# Altium schematic symbol library hmi.SchLib: 60 symbols
Pins are listed as number, name and electrical type; pins without a type are passive.

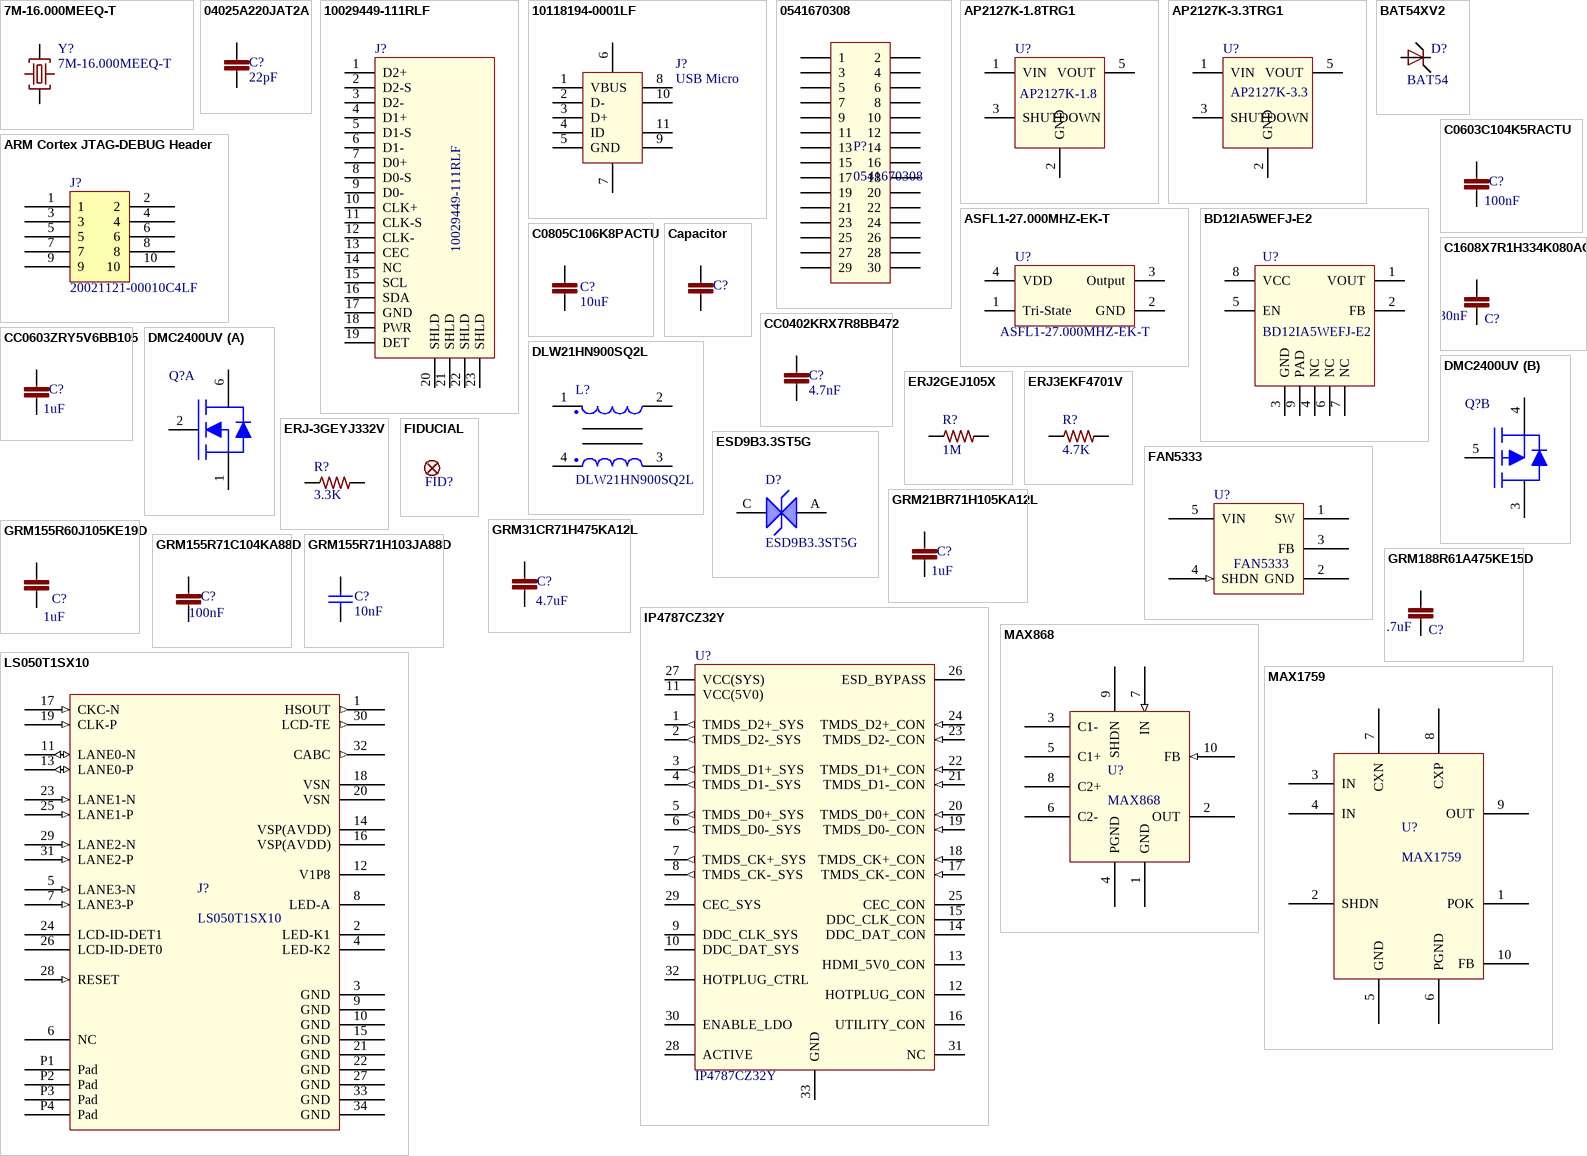
[diagram p0: symbols 7M-16.000MEEQ-T to MAX1759]

## 7M-16.000MEEQ-T
designator Y?
Crystal 16mHz 10ppm 10pF; LastRevisionNote: ImportComponents; LastRevisionDate: 23-Apr-2014; ManufacturerPartNumber: 7M-16.000MEEQ-T; Published: 23-Apr-2014; Publisher: UltiMachine
footprint CRYS320250
pins: 1 C1, 2 GND, 3 C2, 4 GND

## 04025A220JAT2A
designator C?, comment 22pF
CAP CER 0402 22pF 50V 5% C0G; ManufacturerPartNumber: 04025A220JAT2A; LastRevisionNote: ImportComponents; Published: 23-Apr-2014; Publisher: UltiMachine; LastRevisionDate: 23-Apr-2014; VALUE: 22pF
signal-integrity model Model Name (Model Description)
simulation model Model Name (Model Description)
footprint C0402
pins: 1, 2

## 10029449-111RLF
designator J?
CONN HDMI RECPT 19POS SMT R/A
footprint 10029449-111RLF
pins: 1 D2+ (power), 2 D2-S (power), 3 D2- (power), 4 D1+ (power), 5 D1-S (power), 6 D1- (power), 7 D0+ (power), 8 D0-S (power), 9 D0- (power), 10 CLK+ (power), 11 CLK-S (power), 12 CLK- (power), 13 CEC (power), 14 NC (power), 15 SCL (power), 16 SDA (power), 17 GND (power), 18 PWR (power), 19 DET (power), 20 SHLD (power), 21 SHLD (power), 22 SHLD (power), 23 SHLD (power)

## 10118194-0001LF
designator J?, comment USB Micro
Conn Recept USB - micro B 2.0 5 Pos SMT, Rt Angle, Horizontal
footprint 10118194-0001LF
pins: 1 VBUS (power), 2 D- (power), 3 D+ (power), 4 ID (power), 5 GND (power), 6 (power), 7 (power), 8 (power), 9 (power), 10 (power), 11 (power)

## 0541670308
designator P?
footprint 0537480308-PinSwitched
pins: 1 (power), 2 (power), 3 (power), 4 (power), 5 (power), 6 (power), 7 (power), 8 (power), 9 (power), 10 (power), 11 (power), 12 (power), 13 (power), 14 (power), 15 (power), 16 (power), 17 (power), 18 (power), 19 (power), 20 (power), 21 (power), 22 (power), 23 (power), 24 (power), 25 (power), 26 (power), 27 (power), 28 (power), 29 (power), 30 (power)

## AP2127K-1.8TRG1
designator U?, comment AP2127K-1.8
LDO 1.8V 0.3A SOT25
footprint SOT23-5P285X140-5L (SOT26, 6-Leads, Body 3.00x2.85mm, Pitch 0.95mm, IPC High Density)
pins: 1 VIN (power), 2 GND (power), 3 SHUTDOWN (power), 5 VOUT (power)

## AP2127K-3.3TRG1
designator U?, comment AP2127K-3.3
LDO 3.3V 0.3A SOT25
footprint SOT23-5P285X140-5L (SOT26, 6-Leads, Body 3.00x2.85mm, Pitch 0.95mm, IPC High Density)
pins: 1 VIN (power), 2 GND (power), 3 SHUTDOWN (power), 5 VOUT (power)

## ARM Cortex JTAG-DEBUG Header
designator J?, comment 20021121-00010C4LF
footprint FTSH-105-XX-X-DV (1.27mm pitch, 10 pin, terminal strip; vertical, SMT)
pins: 1, 2, 3, 4, 5, 6, 7, 8, 9, 10

## ASFL1-27.000MHZ-EK-T
designator U?
OSC XO 27.000MHZ HCMOS TTL SMD
footprint OSC-5x3.2x1.3
pins: 1 Tri-State (power), 2 GND (power), 3 Output (power), 4 VDD (power)

## BAT54XV2
designator D?, comment BAT54
Diode Schottky 30V 200mA
footprint SOD523
signal-integrity model Guessed Model (Diode Model Details Guessed by Setup Helper)
pins: A, C

## BD12IA5WEFJ-E2
designator U?
LDO Regulator 500mA 1.2V
footprint TSOP-HTSOP-J8-127P600X100_HS-9M (TSOP, 8-Leads, Body 5.02x3.90mm, Pitch 1.27mm, Thermal Pad 3.20x2.40mm, IPC Low Density)
pins: 1 VOUT (power), 2 FB (power), 3 GND (power), 4 NC (power), 5 EN (power), 6 NC (power), 7 NC (power), 8 VCC (power), 9 PAD (power)

## C0603C104K5RACTU
designator C?, comment 100nF
CAP CER 0603 100nF 50V 10% X7R; ManufacturerPartNumber: C0603C104K5RACTU; LastRevisionNote: ImportComponents; Published: 23-Apr-2014; Publisher: UltiMachine; LastRevisionDate: 23-Apr-2014; VALUE: 100nF
footprint C0603
signal-integrity model Model Name (Model Description)
simulation model Model Name (Model Description)
pins: 1, 2

## C0805C106K8PACTU
designator C?, comment 10uF
CAP CER 0805 10uF 10V 10% X5R; ManufacturerPartNumber: C0805C106K8PACTU; LastRevisionNote: ImportComponents; Published: 23-Apr-2014; Publisher: UltiMachine; LastRevisionDate: 23-Apr-2014; VALUE: 10uF
footprint C0805
signal-integrity model Model Name (Model Description)
simulation model Model Name (Model Description)
pins: 1, 2

## C1608X7R1H334K080AC
designator C?, comment 330nF
CAP CER 0603 330nF 50V 10% X7R; ManufacturerPartNumber: C1608X7R1H334K080AC; LastRevisionNote: ImportComponents; Published: 23-Apr-2014; Publisher: UltiMachine; LastRevisionDate: 23-Apr-2014; VALUE: 330nF
footprint C0603
signal-integrity model Model Name (Model Description)
simulation model Model Name (Model Description)
pins: 1, 2

## Capacitor
designator C?
Capacitor Non Polarized; LastRevisionNote: ImportComponents; Published: 23-Apr-2014; Publisher: UltiMachine; LastRevisionDate: 23-Apr-2014
footprint C0402
footprint C0603
footprint C0805
footprint C1210K
signal-integrity model Model Name (Model Description)
simulation model Model Name (Model Description)
footprint C2220K
footprint C1206
pins: 1, 2

## CC0402KRX7R8BB472
designator C?, comment 4.7nF
CAP CER 0402 4.7nF 25V 10% X7R; ManufacturerPartNumber: CC0402KRX7R8BB472; LastRevisionNote: ImportComponents; Published: 23-Apr-2014; Publisher: UltiMachine; VALUE: 4.7nF; LastRevisionDate: 23-Apr-2014
footprint C0402
signal-integrity model Model Name (Model Description)
simulation model Model Name (Model Description)
pins: 1, 2

## CC0603ZRY5V6BB105
designator C?, comment 1uF
CAP CER 0603 1uF 10V Y5V; ManufacturerPartNumber: CC0603ZRY5V6BB105; LastRevisionNote: ImportComponents; Published: 23-Apr-2014; Publisher: UltiMachine; LastRevisionDate: 23-Apr-2014; VALUE: 1uF
footprint C0603
signal-integrity model Model Name (Model Description)
simulation model Model Name (Model Description)
pins: 1, 2

## DLW21HN900SQ2L
designator L?
Common Mode Chokes Dual 90Ohm 100MHz 330mA 350mOhm DCR SMD
footprint DLW21HN900SQ2L
pins: 1 (power), 2 (power), 3 (power), 4 (power)

## DMC2400UV
designator Q?  (value not drawn)
Mosfet Complementary Pair N +P
footprint SOT563-FL50P162X170-6N (SOTFL, 6-Leads, Body 1.60x1.63mm, Pitch 0.50mm, IPC Medium Density)
part A pins: 1 S1 (power), 2 G1 (power), 6 D1 (power)
part B pins: 3 D2 (power), 4 S2 (power), 5 G2 (power)

## ERJ2GEJ105X
designator R?, comment 1M
RES 0402 1M 100mW 5%; ManufacturerPartNumber: ERJ2GEJ105X; LastRevisionNote: ImportComponents; Published: 23-Apr-2014; Publisher: UltiMachine; LastRevisionDate: 23-Apr-2014; VALUE: 1M
footprint R0402
signal-integrity model Model Name (Model Description)
simulation model Model Name (Model Description)
pins: 1, 2

## ERJ3EKF4701V
designator R?, comment 4.7K
RES 0603 4.7K 100mW 1%; ManufacturerPartNumber: ERJ3EKF4701V; LastRevisionNote: ImportComponents; Published: 23-Apr-2014; Publisher: UltiMachine; LastRevisionDate: 23-Apr-2014; VALUE: 4.7K
footprint R0603
signal-integrity model Model Name (Model Description)
simulation model Model Name (Model Description)
pins: 1, 2

## ERJ-3GEYJ332V
designator R?, comment 3.3K
RES 0603 3.3K 100mW 1%; ManufacturerPartNumber: ERJ-3EKF1002V; LastRevisionNote: ImportComponents; Published: 23-Apr-2014; Publisher: UltiMachine; LastRevisionDate: 23-Apr-2014; VALUE: 3.3K
footprint R0603
signal-integrity model Model Name (Model Description)
simulation model Model Name (Model Description)
pins: 1, 2

## ESD9B3.3ST5G
designator D?
11.5 V 15 pF SMT Transient Voltage Suppressor - SOD-923
footprint SOD923-100X40-2N (SODFL, 2-Leads, Body 0.60x1.00mm, IPC Medium Density)
pins: A (power), C (power)

## FAN5333
designator U?
LED Driver w/ integrated switch
footprint SOT95P270X145-5L (SOT23, 5-Leads, Body 2.90x2.70mm, Pitch 0.95mm, IPC High Density)
pins: 1 SW (power), 2 GND (power), 3 FB, 4 SHDN (in), 5 VIN (power)

## FIDUCIAL
designator FID?  (value not drawn)
LastRevisionNote: ImportComponents; Published: 23-Apr-2014; Publisher: UltiMachine; LastRevisionDate: 23-Apr-2014
footprint FIDUCIAL-1X2
footprint FIDUCIAL-2x3-Panel

## GRM21BR71H105KA12L
designator C?, comment 1uF
CAP CER 0805 1uF 50V 10% X7R; ManufacturerPartNumber: GRM21BR71H105KA12L; LastRevisionNote: ImportComponents; Published: 23-Apr-2014; Publisher: UltiMachine; LastRevisionDate: 23-Apr-2014; VALUE: 1uF
footprint C0805
signal-integrity model Model Name (Model Description)
simulation model Model Name (Model Description)
pins: 1, 2

## GRM31CR71H475KA12L
designator C?, comment 4.7uF
CAP CER 1206 4.7uF 50V 10% X7R; ManufacturerPartNumber: GRM31CR71H475KA12L; LastRevisionNote: ImportComponents; Published: 23-Apr-2014; Publisher: UltiMachine; LastRevisionDate: 23-Apr-2014; VALUE: 4.7uF
signal-integrity model Model Name (Model Description)
simulation model Model Name (Model Description)
footprint C1206
pins: 1, 2

## GRM155R60J105KE19D
designator C?, comment 1uF
CAP CER 0402 1uF 6.3V 10% X5R; ManufacturerPartNumber: GRM155R60J105KE19D; LastRevisionNote: ImportComponents; Published: 23-Apr-2014; Publisher: UltiMachine; LastRevisionDate: 23-Apr-2014; VALUE: 1uF
footprint C0402
signal-integrity model Model Name (Model Description)
simulation model Model Name (Model Description)
pins: 1, 2

## GRM155R71C104KA88D
designator C?, comment 100nF
CAP CER 0402 100nF 16V 10% X7R; ManufacturerPartNumber: GRM155R71C104KA88D; LastRevisionNote: ImportComponents; Published: 23-Apr-2014; Publisher: UltiMachine; LastRevisionDate: 23-Apr-2014; VALUE: 100nF
footprint C0402
signal-integrity model Model Name (Model Description)
simulation model Model Name (Model Description)
pins: 1, 2

## GRM155R71H103JA88D
designator C?, comment 10nF
CAP CER 10nF 50V X7R 0402; MFR Part #: GRM155R71H103JA88D; MFR: Murata; Part Description: CAP CER 10000PF 50V X7R 0402; Tolerance: 10%; Voltage: 6.3VDC; Value: 0.01uF 50V; Published: 10 - Dec - 2014; LatestRevisionDate: 10 - Dec - 2014; LatestRevisionNote: Ultimachine Footprint Added; Publisher: Ultimachine; Component Type: Chip Capacitor; Mounting Type: SMT 0402; Datasheet: http://search.murata.co.jp/Ceramy/image/img/A01X/G101/ENG/GRM155R71H103JA88-01.pdf; Height: 0.5 ±0.05mm; Digikey #: 490-7763-1-ND; PackageReference: 0402
simulation model CAP (Semiconductor Capacitor)
signal-integrity model Cap Semi
footprint C0402
pins: 1, 2

## GRM188R61A475KE15D
designator C?, comment 4.7uF
CAP CER 4.7UF 10V X5R 0603; ManufacturerPartNumber: GRM188R61A475KE15D; LastRevisionNote: ImportComponents; Published: 23-Apr-2014; Publisher: UltiMachine; LastRevisionDate: 23-Apr-2014; VALUE: 4.7uF
footprint C0603
signal-integrity model Model Name (Model Description)
simulation model Model Name (Model Description)
pins: 1, 2

## IP4787CZ32Y
designator U?
IC DVI/HDMI ESD PROTECT 32HVQFN
footprint QFN32-HVQFN32 (32 terminals; body 5 x 5 x 0.85 mm)
pins: 1 TMDS_D2+_SYS (out), 2 TMDS_D2-_SYS (out), 3 TMDS_D1+_SYS (out), 4 TMDS_D1-_SYS (out), 5 TMDS_D0+_SYS (out), 6 TMDS_D0-_SYS (out), 7 TMDS_CK+_SYS (out), 8 TMDS_CK-_SYS (out), 9 DDC_CLK_SYS (power), 10 DDC_DAT_SYS (power), 11 VCC(5V0) (power), 12 HOTPLUG_CON (power), 13 HDMI_5V0_CON (power), 14 DDC_DAT_CON (power), 15 DDC_CLK_CON (power), 16 UTILITY_CON (power), 17 TMDS_CK-_CON (in), 18 TMDS_CK+_CON (in), 19 TMDS_D0-_CON (in), 20 TMDS_D0+_CON (in), 21 TMDS_D1-_CON (in), 22 TMDS_D1+_CON (in), 23 TMDS_D2-_CON (in), 24 TMDS_D2+_CON (in), 25 CEC_CON (power), 26 ESD_BYPASS (power), 27 VCC(SYS) (power), 28 ACTIVE (power), 29 CEC_SYS (power), 30 ENABLE_LDO (power), 31 NC (power), 32 HOTPLUG_CTRL (power), 33 GND (power)

## LS050T1SX10
designator J?
5"HD LCD Module connector
footprint 504208-3410
pins: 1 HSOUT (out), 2 LED-K1 (power), 3 GND (power), 4 LED-K2 (power), 5 LANE3-N (in), 6 NC, 7 LANE3-P (in), 8 LED-A (power), 9 GND (power), 10 GND (power), 11 LANE0-N (io), 12 V1P8 (power), 13 LANE0-P (io), 14 VSP(AVDD) (power), 15 GND (power), 16 VSP(AVDD) (power), 17 CKC-N (in), 18 VSN (power), 19 CLK-P (in), 20 VSN (power), 21 GND (power), 22 GND (power), 23 LANE1-N (in), 24 LCD-ID-DET1, 25 LANE1-P (in), 26 LCD-ID-DET0, 27 GND (power), 28 RESET (in), 29 LANE2-N (in), 30 LCD-TE (out), 31 LANE2-P (in), 32 CABC (out), 33 GND (power), 34 GND (power), P1 Pad, P2 Pad, P3 Pad, P4 Pad

## MAX868
designator U?
Regulated -2x Inverting Charge Pump
footprint TSSOP50P490X109-10L (TSSOP, 10-Leads, Body 3.00x3.00mm, Pitch 0.50mm, IPC High Density)
pins: 1 GND (power), 2 OUT, 3 C1-, 4 PGND (power), 5 C1+ (power), 6 C2-, 7 IN (in), 8 C2+, 9 SHDN, 10 FB (in)

## MAX1759
designator U?
Buck/Boost Regulating Charge Pump
footprint TSSOP50P490X109-10L (TSSOP, 10-Leads, Body 3.00x3.00mm, Pitch 0.50mm, IPC High Density)
pins: 1 POK, 2 SHDN, 3 IN (power), 4 IN (power), 5 GND (power), 6 PGND (power), 7 CXN, 8 CXP, 9 OUT (power), 10 FB (power)

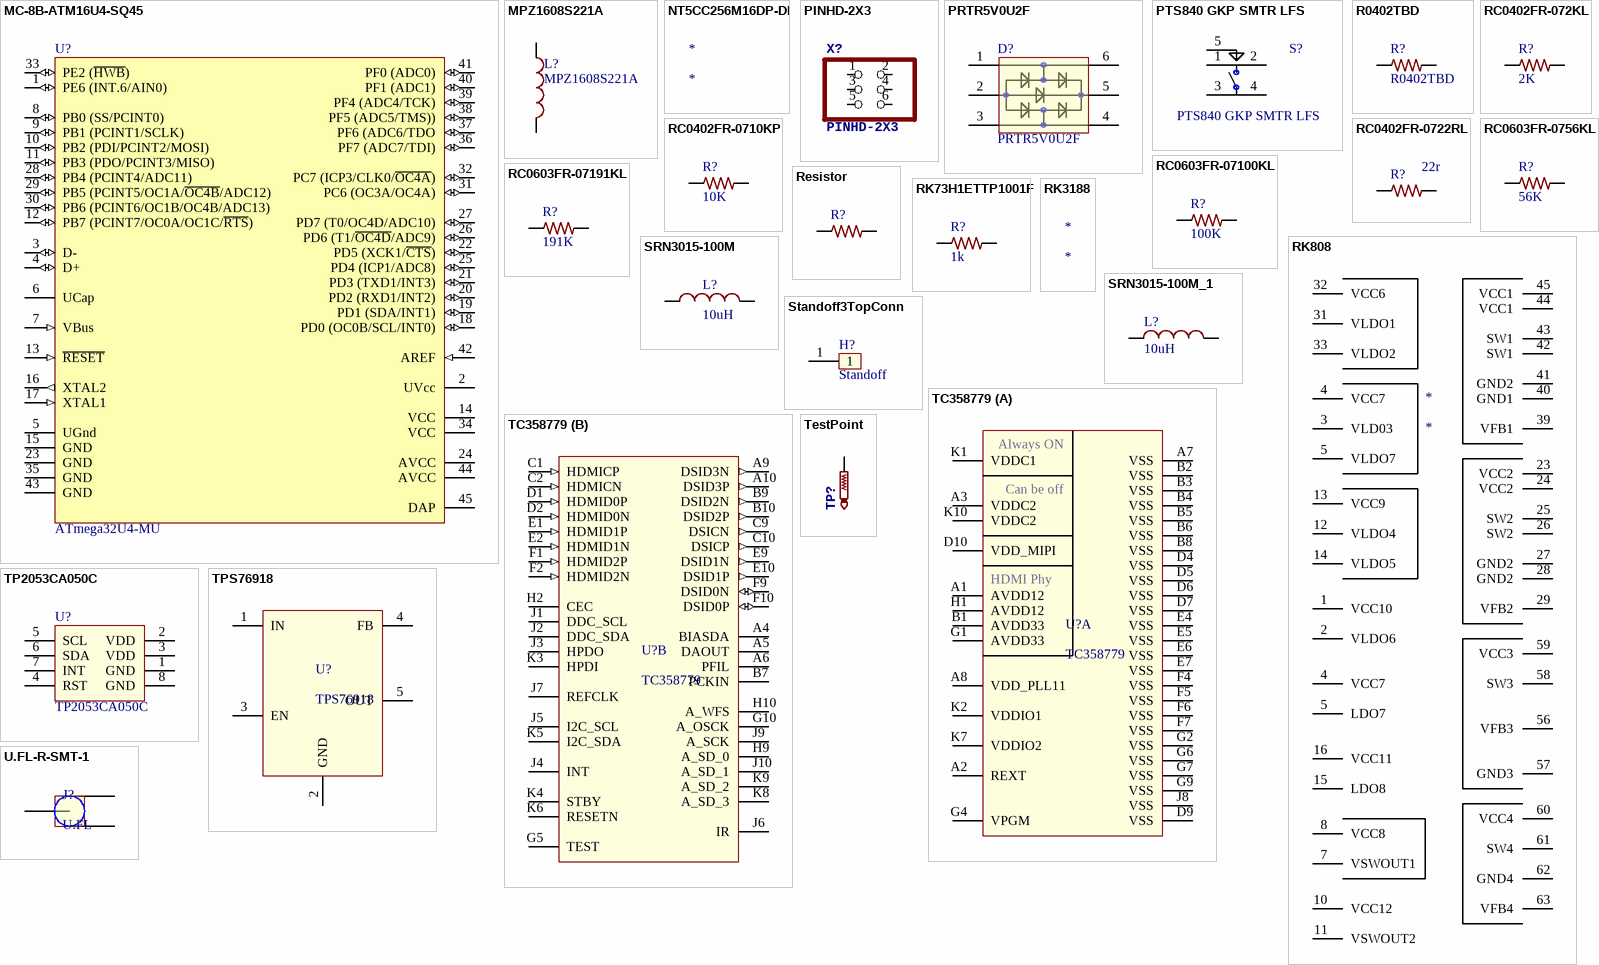
[diagram p1: symbols MC-8B-ATM16U4-SQ45 to U.FL-R-SMT-1]

## MC-8B-ATM16U4-SQ45
designator U?, comment ATmega32U4-MU
footprint 44PW_L (QFN, 44-Leads, Body 7x7mm, Pitch 0.5mm, Thermal Pad 5.3x5.3mm, IPC High Density)
pins: 1 PE6 (INT.6/AIN0) (io), 2 UVcc (power), 3 D- (io), 4 D+ (io), 5 UGnd (power), 6 UCap, 7 VBus (in), 8 PB0 (SS/PCINT0) (io), 9 PB1 (PCINT1/SCLK) (io), 10 PB2 (PDI/PCINT2/MOSI) (io), 11 PB3 (PDO/PCINT3/MISO) (io), 12 PB7 (PCINT7/OC0A/OC1C/~{RTS}) (io), 13 ~{RESET} (in), 14 VCC (power), 15 GND (power), 16 XTAL2 (out), 17 XTAL1 (in), 18 PD0 (OC0B/SCL/INT0) (io), 19 PD1 (SDA/INT1) (io), 20 PD2 (RXD1/INT2) (io), 21 PD3 (TXD1/INT3) (io), 22 PD5 (XCK1/~{CTS}) (io), 23 GND (power), 24 AVCC (power), 25 PD4 (ICP1/ADC8) (io), 26 PD6 (T1/~{OC4D}/ADC9) (io), 27 PD7 (T0/OC4D/ADC10) (io), 28 PB4 (PCINT4/ADC11) (io), 29 PB5 (PCINT5/OC1A/~{OC4B}/ADC12) (io), 30 PB6 (PCINT6/OC1B/OC4B/ADC13) (io), 31 PC6 (OC3A/OC4A) (io), 32 PC7 (ICP3/CLK0/~{OC4A}) (io), 33 PE2 (~{HWB}) (io), 34 VCC (power), 35 GND (power), 36 PF7 (ADC7/TDI) (io), 37 PF6 (ADC6/TDO (io), 38 PF5 (ADC5/TMS)) (io), 39 PF4 (ADC4/TCK) (io), 40 PF1 (ADC1) (io), 41 PF0 (ADC0) (io), 42 AREF (in), 43 GND (power), 44 AVCC (power), 45 DAP (power)

## MPZ1608S221A
designator L?
Ferrite; LastRevisionNote: ImportComponents; Published: 23-Apr-2014; Publisher: UltiMachine; LastRevisionDate: 23-Apr-2014; Value: MPZ1608S221A
footprint C0603
pins: 1, 2

## NT5CC256M16DP-DI
designator *
footprint DDR3x16BGA96C80P9X16_800X1300X100 (BGA, 96-Leads, Body 8.00x13.00mmx1.00mm, Pitch 0.80mm)

## PINHD-2X3
designator X?
PIN HEADER; LastRevisionNote: ImportComponents; LastRevisionDate: 23-Apr-2014; Published: 23-Apr-2014; Publisher: UltiMachine
footprint 2X03
pins: 1, 2, 3, 4, 5, 6

## PRTR5V0U2F
designator D?
Rail-to-rail ESD protection devices
footprint SOT886
pins: 1 (power), 2 (power), 3 (power), 4 (power), 5 (power), 6 (power)

## PTS840 GKP SMTR LFS
designator S?
SWITCH TACTILE SPST-NO 0.05A 12V
footprint PTS840 GKP SMTR LFS (SWITCH TACTILE SPST-NO 0.05A 12V)
pins: 1 (power), 2 (power), 3 (power), 4 (power), 5 (power)

## R0402TBD
designator R?
Resistor; LastRevisionNote: ImportComponents; Published: 23-Apr-2014; Publisher: UltiMachine; LastRevisionDate: 23-Apr-2014; VALUE: R0402TBD
footprint R0402
signal-integrity model Model Name (Model Description)
simulation model Model Name (Model Description)
pins: 1, 2

## RC0402FR-072KL
designator R?, comment 2K
RES SMD 2K OHM 1% 1/16W 0402; ManufacturerPartNumber: RC0402FR-0710KP; LastRevisionNote: ImportComponents; Published: 23-Apr-2014; Publisher: UltiMachine; LastRevisionDate: 23-Apr-2014; VALUE: 2K
footprint R0402
signal-integrity model Model Name (Model Description)
simulation model Model Name (Model Description)
pins: 1, 2

## RC0402FR-0710KP
designator R?, comment 10K
RES SMD 10K OHM 1% 1/16W 0402; ManufacturerPartNumber: RC0402FR-0710KP; LastRevisionNote: ImportComponents; Published: 23-Apr-2014; Publisher: UltiMachine; LastRevisionDate: 23-Apr-2014; VALUE: 10K
footprint R0402
signal-integrity model Model Name (Model Description)
simulation model Model Name (Model Description)
pins: 1, 2

## RC0402FR-0722RL
designator R?, comment 22r
RES 0402 22r 63mW 1%; LastRevisionNote: ImportComponents; Published: 23-Apr-2014; Publisher: UltiMachine; LastRevisionDate: 23-Apr-2014; VALUE: 22r
footprint R0402
signal-integrity model Model Name (Model Description)
simulation model Model Name (Model Description)
pins: 1, 2

## RC0603FR-0756KL
designator R?, comment 56K
RES 56K OHM 1% 1/10W 0603 56K; ManufacturerPartNumber: RC0603FR-0756KL; LastRevisionNote: ImportComponents; Published: 23-Apr-2014; Publisher: UltiMachine; LastRevisionDate: 23-Apr-2014; VALUE: 56K
footprint R0603
signal-integrity model Model Name (Model Description)
simulation model Model Name (Model Description)
pins: 1, 2

## RC0603FR-07100KL
designator R?, comment 100K
RES 100K OHM 1/10W 1% 0603 SMD; ManufacturerPartNumber: RC0603FR-07100KL; LastRevisionNote: ImportComponents; Published: 23-Apr-2014; Publisher: UltiMachine; LastRevisionDate: 23-Apr-2014; VALUE: 100K
footprint R0603
signal-integrity model Model Name (Model Description)
simulation model Model Name (Model Description)
pins: 1, 2

## RC0603FR-07191KL
designator R?, comment 191K
RES 191K OHM 1% 1/10W 0603 SMD; ManufacturerPartNumber: RC0603FR-07191KL; LastRevisionNote: ImportComponents; Published: 23-Apr-2014; Publisher: UltiMachine; LastRevisionDate: 23-Apr-2014; VALUE: 191K
footprint R0603
signal-integrity model Model Name (Model Description)
simulation model Model Name (Model Description)
pins: 1, 2

## Resistor
designator R?
Resistor; LastRevisionNote: ImportComponents; Published: 23-Apr-2014; Publisher: UltiMachine; LastRevisionDate: 23-Apr-2014
footprint R0402
footprint R0603
footprint R1206
signal-integrity model Model Name (Model Description)
simulation model Model Name (Model Description)
footprint RN2010
pins: 1, 2

## RK73H1ETTP1001F
designator R?, comment 1k
RES 0402 1k 63mW 1%; LastRevisionNote: ImportComponents; Published: 23-Apr-2014; Publisher: UltiMachine; LastRevisionDate: 23-Apr-2014; VALUE: 1k
footprint R0402
signal-integrity model Model Name (Model Description)
simulation model Model Name (Model Description)
pins: 1, 2

## RK808
designator *
footprint QFN35P705X700X80_HS-69L (QFN, 68-Leads, Body 7.05x7.00mm, Pitch 0.35mm, Thermal Pad 5.49x5.49mm, IPC High Density)
pins: 1 VCC10 (power), 2 VLDO6 (power), 3 VLD03 (power), 4 VCC7 (power), 4 VCC7 (power), 5 VLDO7 (power), 5 LDO7 (power), 7 VSWOUT1 (power), 8 VCC8 (power), 10 VCC12 (power), 11 VSWOUT2 (power), 12 VLDO4 (power), 13 VCC9 (power), 14 VLDO5 (power), 15 LDO8 (power), 16 VCC11 (power), 23 VCC2 (power), 24 VCC2 (power), 25 SW2 (power), 26 SW2 (power), 27 GND2 (power), 28 GND2 (power), 29 VFB2 (power), 31 VLDO1 (power), 32 VCC6 (power), 33 VLDO2 (power), 39 VFB1 (power), 40 GND1 (power), 41 GND2 (power), 42 SW1 (power), 43 SW1 (power), 44 VCC1 (power), 45 VCC1 (power), 56 VFB3 (power), 57 GND3 (power), 58 SW3 (power), 59 VCC3 (power), 60 VCC4 (power), 61 SW4 (power), 62 GND4 (power), 63 VFB4 (power)

## RK3188
designator *
footprint BGA453C80P23X23_1900X1900X140 (BGA, 453-Leads, Body 19.00x19.00mmx1.40mm, Pitch 0.80mm)

## SRN3015-100M
designator L?, comment 10uH
Ind 10uH 1A
footprint INDP3027X15L (Precision Wire Wound Inductor, 2-Leads, Body 3.00x2.65mm, IPC High Density)
pins: 1, 2

## SRN3015-100M_1
designator L?, comment 10uH
Ind 10uH 1A
footprint INDP3027X15L (Precision Wire Wound Inductor, 2-Leads, Body 3.00x2.65mm, IPC High Density)
signal-integrity model Guessed Model (Inductor Model Details Guessed by Setup Helper)
pins: 1, 2

## Standoff3TopConn
designator H?, comment Standoff  (no BOM)
Mechanical - Top connect
footprint Standoff3mmTopConn
pins: 1 (power)

## TC358779
designator U?
footprint BGA80-0707-065 (P-VFBGA80-0707-0.65-001)
part A pins: A1 AVDD12 (power), A2 REXT (power), A3 VDDC2 (power), A7 VSS (power), A8 VDD_PLL11 (power), B1 AVDD33 (power), B2 VSS (power), B3 VSS (power), B4 VSS (power), B5 VSS (power), B6 VSS (power), B8 VSS (power), D4 VSS (power), D5 VSS (power), D6 VSS (power), D7 VSS (power), D9 VSS (power), D10 VDD_MIPI (power), E4 VSS (power), E5 VSS (power), E6 VSS (power), E7 VSS (power), F4 VSS (power), F5 VSS (power), F6 VSS (power), F7 VSS (power), G1 AVDD33 (power), G2 VSS (power), G4 VPGM (power), G6 VSS (power), G7 VSS (power), G9 VSS (power), H1 AVDD12 (power), J8 VSS (power), K1 VDDC1 (power), K2 VDDIO1 (power), K7 VDDIO2 (power), K10 VDDC2 (power)
part B pins: A4 BIASDA (power), A5 DAOUT (power), A6 PFIL (power), A9 DSID3N (out), A10 DSID3P (out), B7 PCKIN (power), B9 DSID2N (out), B10 DSID2P (out), C1 HDMICP (in), C2 HDMICN (in), C9 DSICN (out), C10 DSICP (out), D1 HDMID0P (in), D2 HDMID0N (in), E1 HDMID1P (in), E2 HDMID1N (in), E9 DSID1N (out), E10 DSID1P (out), F1 HDMID2P (in), F2 HDMID2N (in), F9 DSID0N (io), F10 DSID0P (io), G5 TEST (power), G10 A_OSCK (power), H2 CEC (power), H9 A_SD_0 (power), H10 A_WFS (power), J1 DDC_SCL (power), J2 DDC_SDA (power), J3 HPDO (power), J4 INT (power), J5 I2C_SCL (power), J6 IR (power), J7 REFCLK (power), J9 A_SCK (power), J10 A_SD_1 (power), K3 HPDI (power), K4 STBY (power), K5 I2C_SDA (power), K6 RESETN (power), K8 A_SD_3 (power), K9 A_SD_2 (power)
part A text: Always ON; Can be off; HDMI Phy

## TestPoint
designator TP?  (value not drawn)  (no BOM)
Test Point; LastRevisionNote: ImportComponents; Published: 23-Apr-2014; Publisher: UltiMachine; LastRevisionDate: 23-Apr-2014
footprint TP1-27TH
footprint TP1-27
pins: TP

## TP2053CA050C
designator U?
UltiMachine 5" HD Touch Interface
footprint FFC8x05-top (SFV8R-2STE9HLF)
pins: 1 GND (power), 2 VDD (power), 3 VDD (power), 4 RST (power), 5 SCL (power), 6 SDA (power), 7 INT (power), 8 GND (power)

## TPS76918
designator U?
Regulator 1.8V
footprint SOT95P270X145-5L (SOT23, 5-Leads, Body 2.90x2.70mm, Pitch 0.95mm, IPC High Density)
pins: 1 IN (power), 2 GND (power), 3 EN (power), 4 FB (power), 5 OUT (power)

## U.FL-R-SMT-1
designator J?, comment U.FL
U-FL connector
footprint U.FL-R-SMT-1
pins: 1, 2, 3